# Altium integrated library Analog Devices Data Converters Digital-to-Analog Converters.IntLib: 2231 symbols (part 3 of 181)
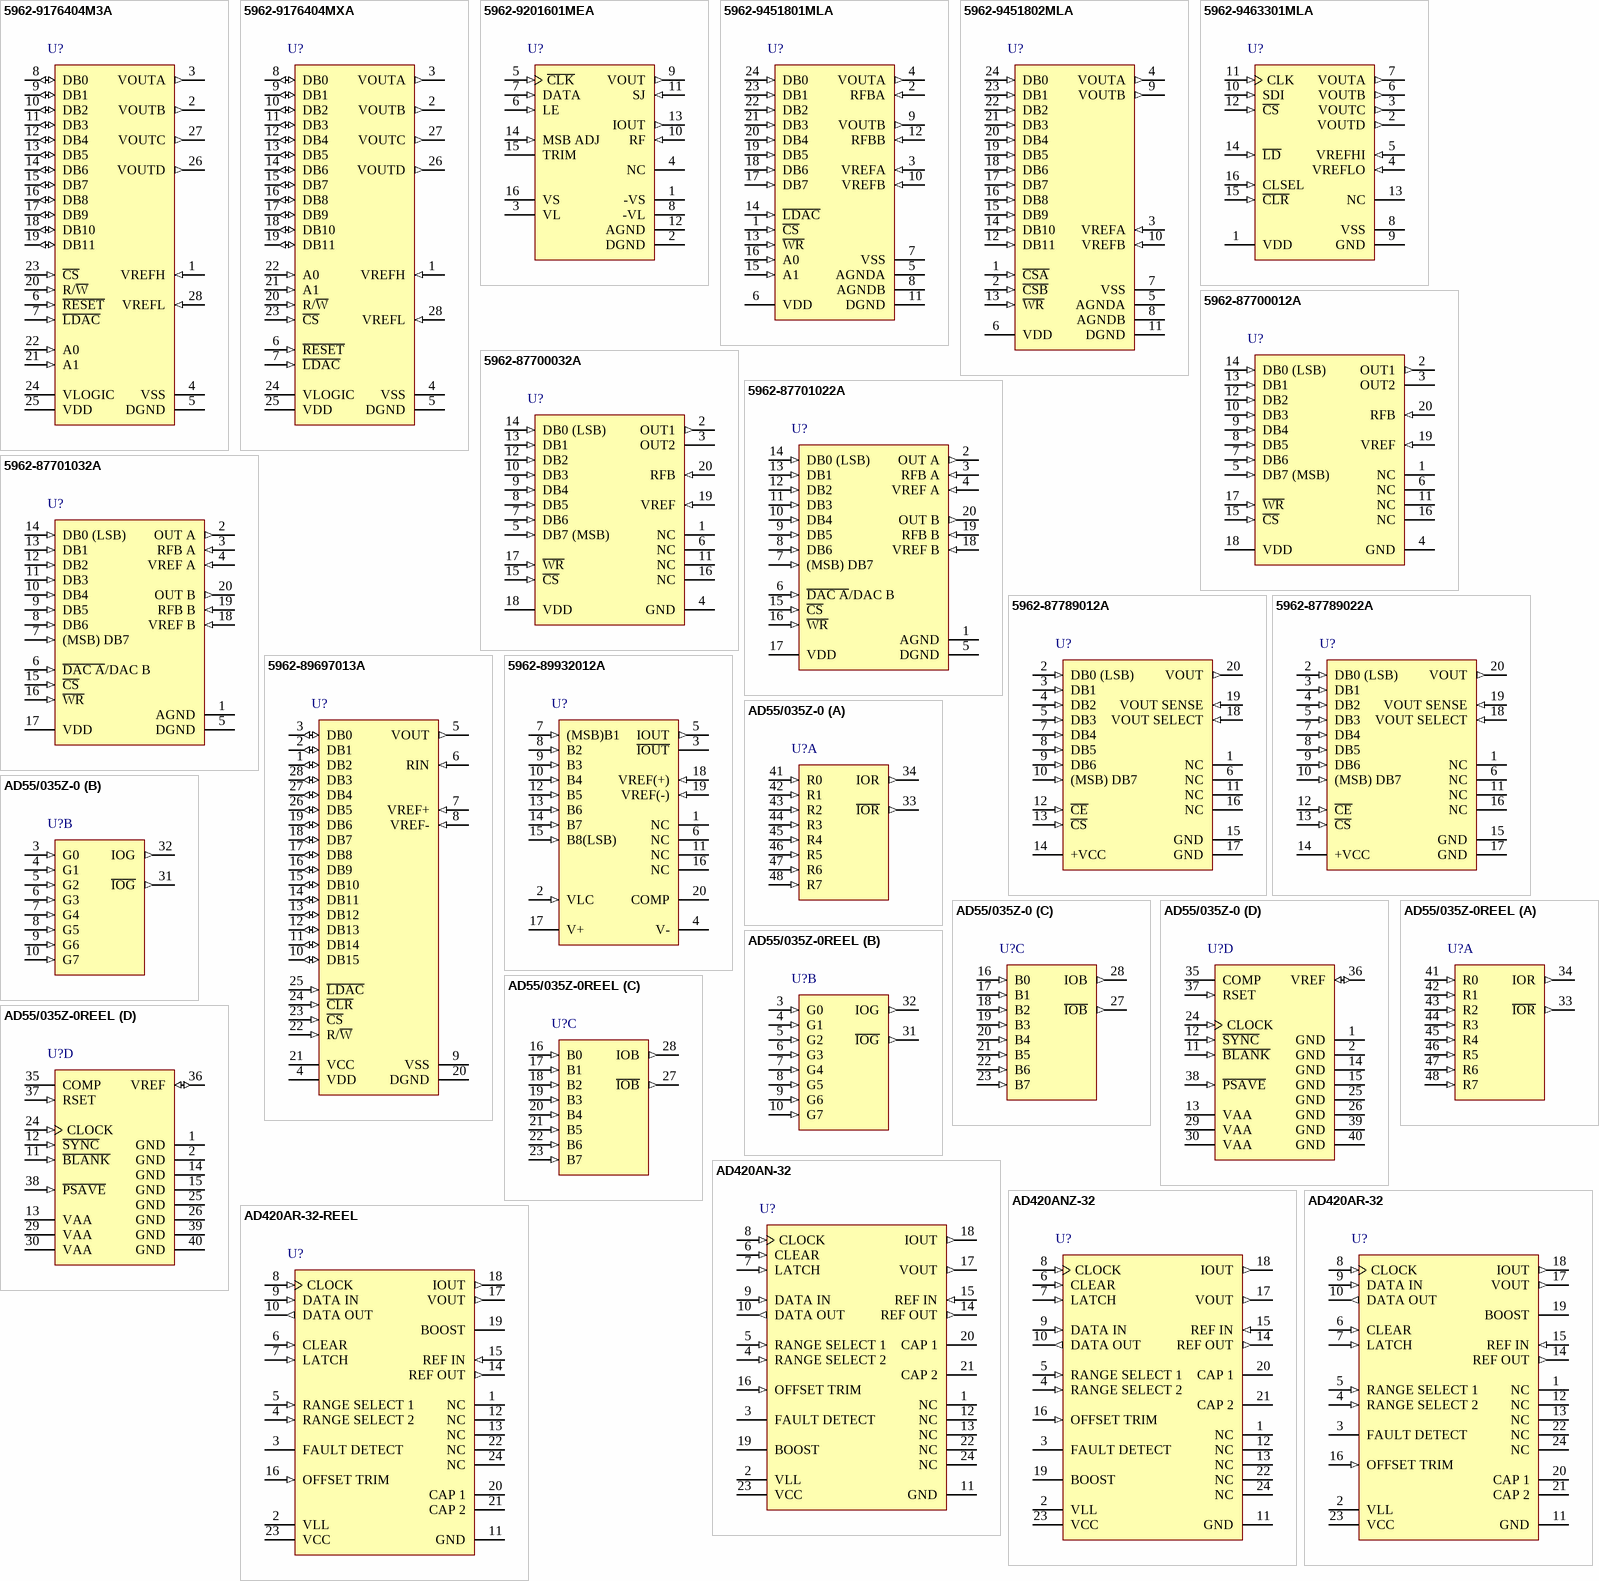
[diagram p116: symbols 5962-9176404M3A to AD420AR-32-REEL]

## AD420ANZ-32
designator U?
Single 16-Bit Digital-to-Analog Converter with Serial Interface, -40 to +85 degC, N-24-1, Pb-Free, Tube; Generic Part Number: AD420; Manufacturer: Analog Devices; PartNumber: AD420ANZ-32; # DAC Outputs: 1; Max V+: 32V; Op Pwr Diss: 176mW; Resolution (Bits): 16; Settling Time: 2.5ms; Single Supply: Yes; DatasheetVersion: Rev.H; PackageVersion: 071006-A; PackageReference: N-24-1; PackageDescription: 24-Lead Plastic Dual In-Line Package [PDIP] Narrow Body; Supplier 1: Digi-Key; Supplier Part Number 1: AD420ANZ-32-ND; Supplier 2: Farnell; Supplier Part Number 2: 9605533; Supplier 3: Newark; Supplier Part Number 3: 59K3523; Supplier 4: Mouser; Supplier Part Number 4: 584-AD420ANZ-32; Packing: Tube; RoHS: Y; Mounting Technology: Through Hole; Code_JEDEC: MS-001; ComponentLink1Description: Manufacturer URL; ComponentLink1URL: http://www.analog.com/en/index.html; ComponentLink2Description: Datasheet; ComponentLink2URL: http://www.analog.com/static/imported-files/data_sheets/AD420.pdf; ComponentLink3Description: Package Specification; ComponentLink3URL: http://www.analog.com/static/imported-files/packages/50726455539629N_24_1.pdf; ComponentLink4Description: Product URL; ComponentLink4URL: http://www.analog.com/en/digital-to-analog-converters/da-converters/ad420/products/product.html
footprint N-24-1 (DIP, 24-Leads, Row Spacing 7.62mm, Pitch 2.54mm, Body 31.9x6.6mm)
pins: 1 NC "No Connection. No internal connections inside device.", 2 VLL (power) "Auxiliary buffered +4.5 V digital logic voltage. This pin is the internal supply voltage for the digital circuitry and can be used as a termination for pull-up resistors. An external +5 V power supply can be connected to VLL.(See Datasheet)", 3 FAULT DETECT (oc) "FAULT DETECT, connected to a pull-up resistor, is asserted low when the output current does not match the DAC’s programmed value, for example, in case the current loop is broken.", 4 RANGE SELECT 2 (in) "Selects the converter’s output operating range. One output voltage range and three output current ranges are available.", 5 RANGE SELECT 1 (in) "Selects the converter’s output operating range. One output voltage range and three output current ranges are available.", 6 CLEAR (in) "Valid VIH unconditionally forces the output to go to the minimum of its programmed range. After CLEAR is removed the DAC output will remain at this value. The data in the input register is unaffected.", 7 LATCH (in) "In the 3-wire interface mode a rising edge parallel loads the serial input register data into the DAC. To use the asynchronous mode connect LATCH through a current limiting resistor to VCC.", 8 CLOCK (in) "Data Clock Input. The clock period is equal to the input data bit rate in the 3-wire interface mode and is 16 times the bit rate in asynchronous mode.", 9 DATA IN (in) "Serial Data Input.", 10 DATA OUT (out) "Serial Data Output. In the 3-wire interface mode, this output can be used for daisy-chaining multiple AD420s. In the asynchronous mode a positive pulse will indicate a framing error after the stop-bit is received.", 11 GND (power) "Ground (Common).", 12 NC "No Connection. No internal connections inside device.", 13 NC "No Connection. No internal connections inside device.", 14 REF OUT (out) "+5 V Reference Output.", 15 REF IN (in) "Reference Input.", 16 OFFSET TRIM (in) "Offset Adjust.", 17 VOUT (out) "Voltage Output.", 18 IOUT (out) "Current Output.", 19 BOOST "Connect to an external transistor to reduce the power dissipated in the AD420 output transistor, if desired.", 20 CAP 1 "These pins are used for internal filtering. Connect capacitors between each of these pins and VCC. Refer to the description of current output operation.", 21 CAP 2 "These pins are used for internal filtering. Connect capacitors between each of these pins and VCC. Refer to the description of current output operation.", 22 NC "No Connection. Do not connect anything to this pin.", 23 VCC (power) "Power Supply Input. The VCC pin should always be decoupled to GND with a 0.1 uF capacitor. See the Power Supplies and Decoupling section.", 24 NC "No Connection. No internal connections inside device."

## AD420AR-32
designator U?
Single 16-Bit Digital-to-Analog Converter with Serial Interface, -40 to +85 degC, RW-24, Tube; Generic Part Number: AD420; Manufacturer: Analog Devices; PartNumber: AD420AR-32; # DAC Outputs: 1; Max V+: 32V; Op Pwr Diss: 176mW; Resolution (Bits): 16; Settling Time: 2.5ms; Single Supply: Yes; DatasheetVersion: Rev.H; PackageVersion: 060706-A; PackageReference: RW-24; PackageDescription: 24-Lead Standard Small Outline Package [SOIC_W]; Supplier 1: Digi-Key; Supplier Part Number 1: AD420AR-32-ND; Supplier 2: Newark; Supplier Part Number 2: 92F8939; Supplier 3: Mouser; Supplier Part Number 3: 584-AD420AR-32; Packing: Tube; RoHS: N; Mounting Technology: Surface Mount; Code_JEDEC: MS-013-AD; ComponentLink1Description: Manufacturer URL; ComponentLink1URL: http://www.analog.com/en/index.html; ComponentLink2Description: Datasheet; ComponentLink2URL: http://www.analog.com/static/imported-files/data_sheets/AD420.pdf; ComponentLink3Description: Package Specification; ComponentLink3URL: http://www.analog.com/static/imported-files/packages/33665150946139RW_24.pdf; ComponentLink4Description: Product URL; ComponentLink4URL: http://www.analog.com/en/digital-to-analog-converters/da-converters/ad420/products/product.html
footprint RW-24_N (SOIC, 24-Leads, Body 15.4x7.5mm, Pitch 1.27mm, IPC Medium Density)
footprint RW-24_L (SOIC, 24-Leads, Body 15.4x7.5mm, Pitch 1.27mm, IPC High Density)
footprint RW-24_M (SOIC, 24-Leads, Body 15.4x7.5mm, Pitch 1.27mm, IPC Low Density)
pins: 1 NC "No Connection. No internal connections inside device.", 2 VLL (power) "Auxiliary buffered +4.5 V digital logic voltage. This pin is the internal supply voltage for the digital circuitry and can be used as a termination for pull-up resistors. An external +5 V power supply can be connected to VLL.(See Datasheet)", 3 FAULT DETECT (oc) "FAULT DETECT, connected to a pull-up resistor, is asserted low when the output current does not match the DAC’s programmed value, for example, in case the current loop is broken.", 4 RANGE SELECT 2 (in) "Selects the converter’s output operating range. One output voltage range and three output current ranges are available.", 5 RANGE SELECT 1 (in) "Selects the converter’s output operating range. One output voltage range and three output current ranges are available.", 6 CLEAR (in) "Valid VIH unconditionally forces the output to go to the minimum of its programmed range. After CLEAR is removed the DAC output will remain at this value. The data in the input register is unaffected.", 7 LATCH (in) "In the 3-wire interface mode a rising edge parallel loads the serial input register data into the DAC. To use the asynchronous mode connect LATCH through a current limiting resistor to VCC.", 8 CLOCK (in) "Data Clock Input. The clock period is equal to the input data bit rate in the 3-wire interface mode and is 16 times the bit rate in asynchronous mode.", 9 DATA IN (in) "Serial Data Input.", 10 DATA OUT (out) "Serial Data Output. In the 3-wire interface mode, this output can be used for daisy-chaining multiple AD420s. In the asynchronous mode a positive pulse will indicate a framing error after the stop-bit is received.", 11 GND (power) "Ground (Common).", 12 NC "No Connection. No internal connections inside device.", 13 NC "No Connection. No internal connections inside device.", 14 REF OUT (out) "+5 V Reference Output.", 15 REF IN (in) "Reference Input.", 16 OFFSET TRIM (in) "Offset Adjust.", 17 VOUT (out) "Voltage Output.", 18 IOUT (out) "Current Output.", 19 BOOST "Connect to an external transistor to reduce the power dissipated in the AD420 output transistor, if desired.", 20 CAP 1 "These pins are used for internal filtering. Connect capacitors between each of these", 21 CAP 2 "pins and VCC. Refer to the description of current output operation.", 22 NC "No Connection. Do not connect anything to this pin.", 23 VCC (power) "Power Supply Input. The VCC pin should always be decoupled to GND with a 0.1 uF capacitor. See the Power Supplies and Decoupling section.", 24 NC "No Connection. No internal connections inside device."

## AD420AR-32-REEL
designator U?
Single 16-Bit Digital-to-Analog Converter with Serial Interface, -40 to +85 degC, RW-24, Reel; Generic Part Number: AD420; Manufacturer: Analog Devices; PartNumber: AD420AR-32-REEL; # DAC Outputs: 1; Max V+: 32V; Op Pwr Diss: 176mW; Resolution (Bits): 16; Settling Time: 2.5ms; Single Supply: Yes; DatasheetVersion: Rev.H; PackageVersion: 060706-A; PackageReference: RW-24; PackageDescription: 24-Lead Standard Small Outline Package [SOIC_W]; Supplier 1: Digi-Key; Supplier Part Number 1: AD420AR-32-REEL-ND; Supplier 2: Newark; Supplier Part Number 2: 09B5129; Supplier 3: Mouser; Supplier Part Number 3: 584-AD420AR-32-R; Packing: Reel; RoHS: N; Mounting Technology: Surface Mount; Code_JEDEC: MS-013-AD; ComponentLink1Description: Manufacturer URL; ComponentLink1URL: http://www.analog.com/en/index.html; ComponentLink2Description: Datasheet; ComponentLink2URL: http://www.analog.com/static/imported-files/data_sheets/AD420.pdf; ComponentLink3Description: Package Specification; ComponentLink3URL: http://www.analog.com/static/imported-files/packages/33665150946139RW_24.pdf; ComponentLink4Description: Product URL; ComponentLink4URL: http://www.analog.com/en/digital-to-analog-converters/da-converters/ad420/products/product.html
footprint RW-24_N (SOIC, 24-Leads, Body 15.4x7.5mm, Pitch 1.27mm, IPC Medium Density)
footprint RW-24_L (SOIC, 24-Leads, Body 15.4x7.5mm, Pitch 1.27mm, IPC High Density)
footprint RW-24_M (SOIC, 24-Leads, Body 15.4x7.5mm, Pitch 1.27mm, IPC Low Density)
pins: 1 NC "No Connection. No internal connections inside device.", 2 VLL (power) "Auxiliary buffered +4.5 V digital logic voltage. This pin is the internal supply voltage for the digital circuitry and can be used as a termination for pull-up resistors. An external +5 V power supply can be connected to VLL.(See Datasheet)", 3 FAULT DETECT (oc) "FAULT DETECT, connected to a pull-up resistor, is asserted low when the output current does not match the DAC’s programmed value, for example, in case the current loop is broken.", 4 RANGE SELECT 2 (in) "Selects the converter’s output operating range. One output voltage range and three output current ranges are available.", 5 RANGE SELECT 1 (in) "Selects the converter’s output operating range. One output voltage range and three output current ranges are available.", 6 CLEAR (in) "Valid VIH unconditionally forces the output to go to the minimum of its programmed range. After CLEAR is removed the DAC output will remain at this value. The data in the input register is unaffected.", 7 LATCH (in) "In the 3-wire interface mode a rising edge parallel loads the serial input register data into the DAC. To use the asynchronous mode connect LATCH through a current limiting resistor to VCC.", 8 CLOCK (in) "Data Clock Input. The clock period is equal to the input data bit rate in the 3-wire interface mode and is 16 times the bit rate in asynchronous mode.", 9 DATA IN (in) "Serial Data Input.", 10 DATA OUT (out) "Serial Data Output. In the 3-wire interface mode, this output can be used for daisy-chaining multiple AD420s. In the asynchronous mode a positive pulse will indicate a framing error after the stop-bit is received.", 11 GND (power) "Ground (Common).", 12 NC "No Connection. No internal connections inside device.", 13 NC "No Connection. No internal connections inside device.", 14 REF OUT (out) "+5 V Reference Output.", 15 REF IN (in) "Reference Input.", 16 OFFSET TRIM (in) "Offset Adjust.", 17 VOUT (out) "Voltage Output.", 18 IOUT (out) "Current Output.", 19 BOOST "Connect to an external transistor to reduce the power dissipated in the AD420 output transistor, if desired.", 20 CAP 1 "These pins are used for internal filtering. Connect capacitors between each of these", 21 CAP 2 "pins and VCC. Refer to the description of current output operation.", 22 NC "No Connection. Do not connect anything to this pin.", 23 VCC (power) "Power Supply Input. The VCC pin should always be decoupled to GND with a 0.1 uF capacitor. See the Power Supplies and Decoupling section.", 24 NC "No Connection. No internal connections inside device."

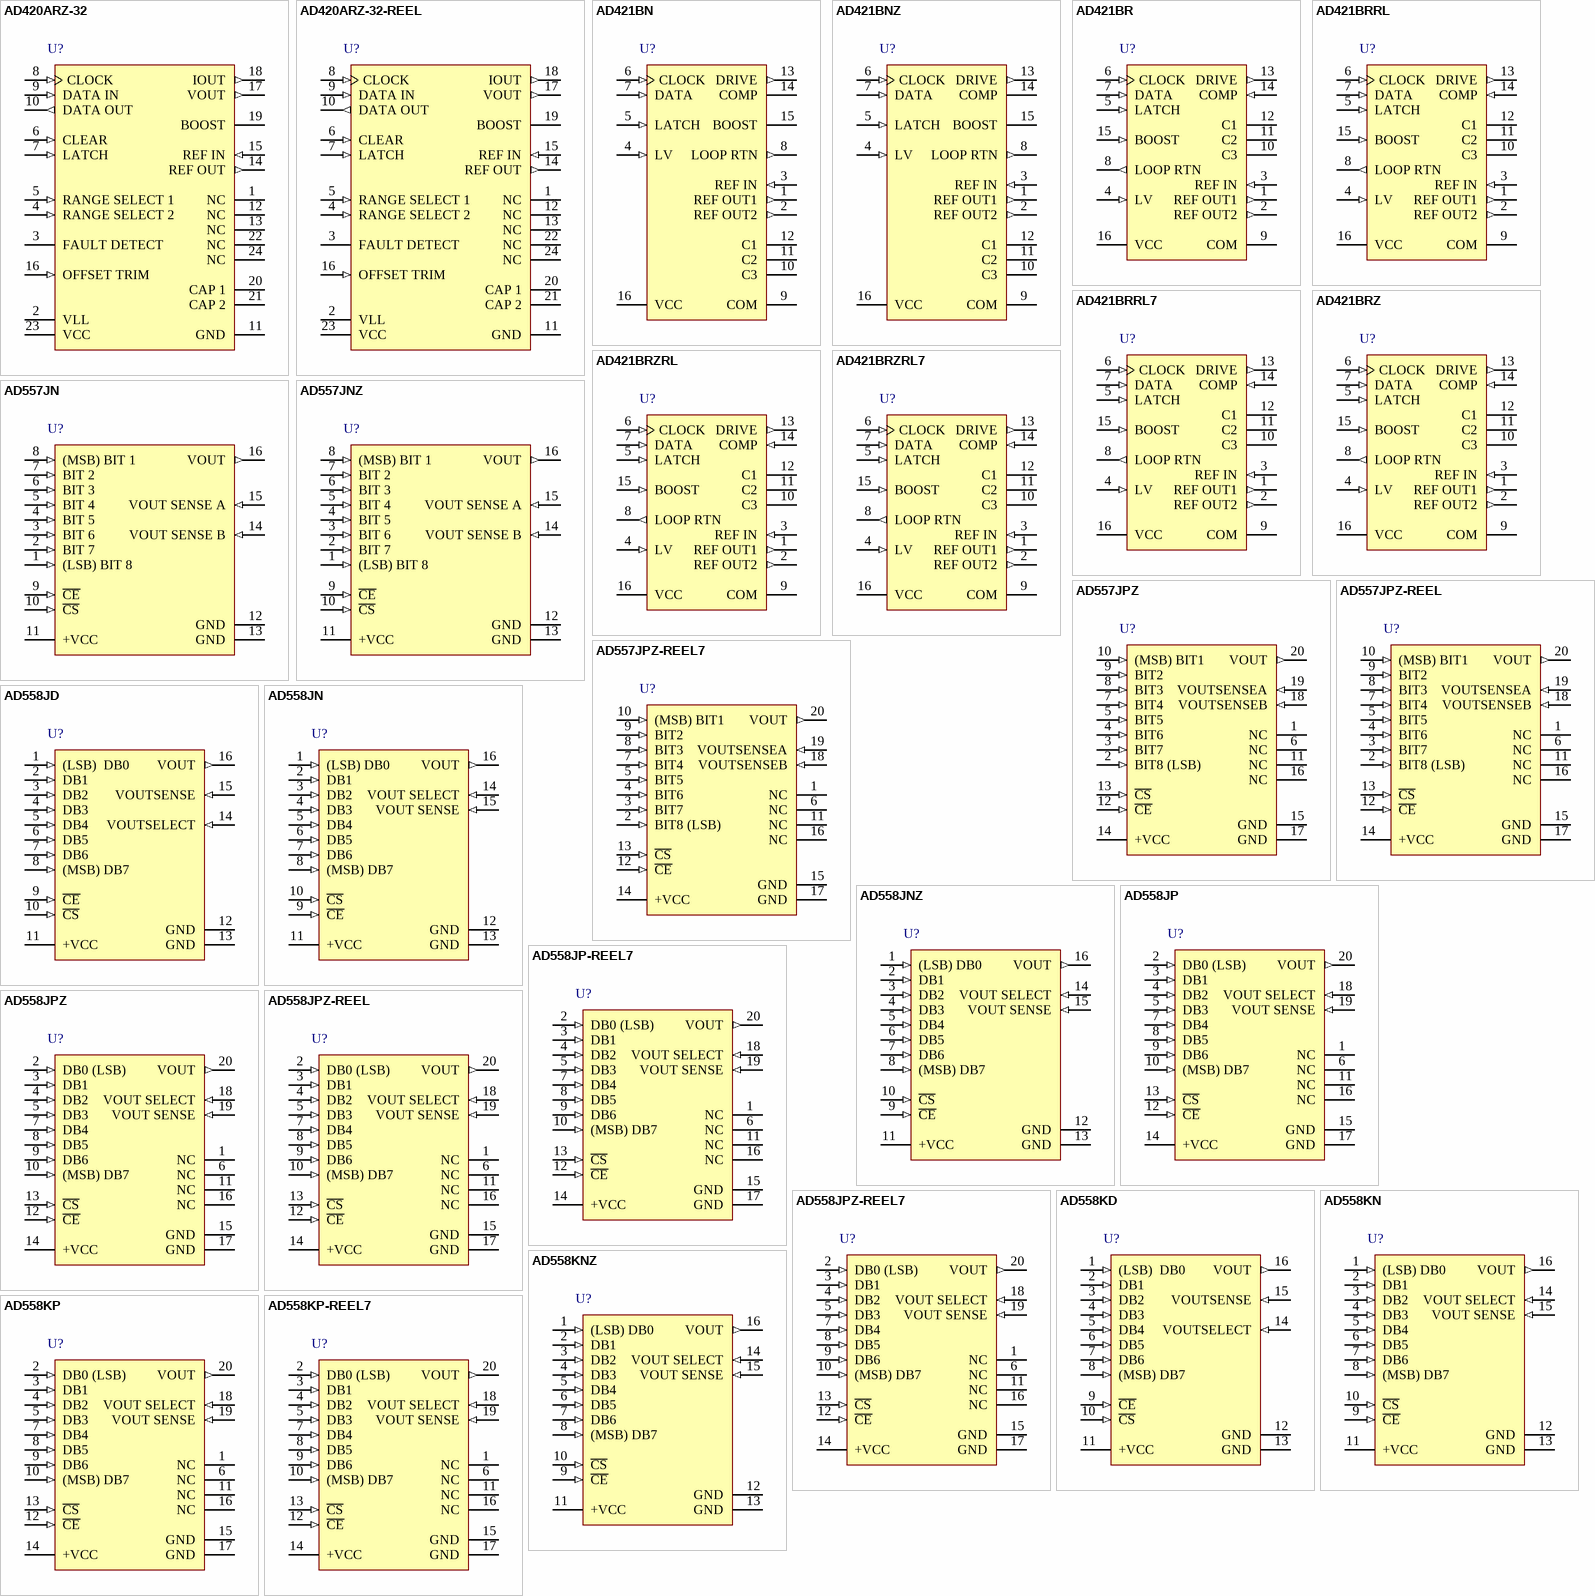
[diagram p2: symbols AD420ARZ-32 to AD558KP-REEL7]

## AD420ARZ-32
designator U?
Single 16-Bit Digital-to-Analog Converter with Serial Interface, -40 to +85 degC, RW-24, Pb-Free, Tube; Generic Part Number: AD420; Manufacturer: Analog Devices; PartNumber: AD420ARZ-32; # DAC Outputs: 1; Max V+: 32V; Op Pwr Diss: 176mW; Resolution (Bits): 16; Settling Time: 2.5ms; Single Supply: Yes; DatasheetVersion: Rev.H; PackageVersion: 060706-A; PackageReference: RW-24; PackageDescription: 24-Lead Standard Small Outline Package [SOIC_W]; Supplier 1: Digi-Key; Supplier Part Number 1: AD420ARZ-32-ND; Supplier 2: Farnell; Supplier Part Number 2: 1079391; Supplier 3: Newark; Supplier Part Number 3: 19M0785; Supplier 4: Mouser; Supplier Part Number 4: 584-AD420ARZ-32; Packing: Tube; RoHS: Y; Mounting Technology: Surface Mount; Code_JEDEC: MS-013-AD; ComponentLink1Description: Manufacturer URL; ComponentLink1URL: http://www.analog.com/en/index.html; ComponentLink2Description: Datasheet; ComponentLink2URL: http://www.analog.com/static/imported-files/data_sheets/AD420.pdf; ComponentLink3Description: Package Specification; ComponentLink3URL: http://www.analog.com/static/imported-files/packages/33665150946139RW_24.pdf; ComponentLink4Description: Product URL; ComponentLink4URL: http://www.analog.com/en/digital-to-analog-converters/da-converters/ad420/products/product.html
footprint RW-24_N (SOIC, 24-Leads, Body 15.4x7.5mm, Pitch 1.27mm, IPC Medium Density)
footprint RW-24_L (SOIC, 24-Leads, Body 15.4x7.5mm, Pitch 1.27mm, IPC High Density)
footprint RW-24_M (SOIC, 24-Leads, Body 15.4x7.5mm, Pitch 1.27mm, IPC Low Density)
pins: 1 NC "No Connection. No internal connections inside device.", 2 VLL (power) "Auxiliary buffered +4.5 V digital logic voltage. This pin is the internal supply voltage for the digital circuitry and can be used as a termination for pull-up resistors. An external +5 V power supply can be connected to VLL.(See Datasheet)", 3 FAULT DETECT (oc) "FAULT DETECT, connected to a pull-up resistor, is asserted low when the output current does not match the DAC’s programmed value, for example, in case the current loop is broken.", 4 RANGE SELECT 2 (in) "Selects the converter’s output operating range. One output voltage range and three output current ranges are available.", 5 RANGE SELECT 1 (in) "Selects the converter’s output operating range. One output voltage range and three output current ranges are available.", 6 CLEAR (in) "Valid VIH unconditionally forces the output to go to the minimum of its programmed range. After CLEAR is removed the DAC output will remain at this value. The data in the input register is unaffected.", 7 LATCH (in) "In the 3-wire interface mode a rising edge parallel loads the serial input register data into the DAC. To use the asynchronous mode connect LATCH through a current limiting resistor to VCC.", 8 CLOCK (in) "Data Clock Input. The clock period is equal to the input data bit rate in the 3-wire interface mode and is 16 times the bit rate in asynchronous mode.", 9 DATA IN (in) "Serial Data Input.", 10 DATA OUT (out) "Serial Data Output. In the 3-wire interface mode, this output can be used for daisy-chaining multiple AD420s. In the asynchronous mode a positive pulse will indicate a framing error after the stop-bit is received.", 11 GND (power) "Ground (Common).", 12 NC "No Connection. No internal connections inside device.", 13 NC "No Connection. No internal connections inside device.", 14 REF OUT (out) "+5 V Reference Output.", 15 REF IN (in) "Reference Input.", 16 OFFSET TRIM (in) "Offset Adjust.", 17 VOUT (out) "Voltage Output.", 18 IOUT (out) "Current Output.", 19 BOOST "Connect to an external transistor to reduce the power dissipated in the AD420 output transistor, if desired.", 20 CAP 1 "These pins are used for internal filtering. Connect capacitors between each of these", 21 CAP 2 "pins and VCC. Refer to the description of current output operation.", 22 NC "No Connection. Do not connect anything to this pin.", 23 VCC (power) "Power Supply Input. The VCC pin should always be decoupled to GND with a 0.1 uF capacitor. See the Power Supplies and Decoupling section.", 24 NC "No Connection. No internal connections inside device."

## AD420ARZ-32-REEL
designator U?
Single 16-Bit Digital-to-Analog Converter with Serial Interface, -40 to +85 degC, RW-24, Pb-Free, Reel; Generic Part Number: AD420; Manufacturer: Analog Devices; PartNumber: AD420ARZ-32-REEL; # DAC Outputs: 1; Max V+: 32V; Op Pwr Diss: 176mW; Resolution (Bits): 16; Settling Time: 2.5ms; Single Supply: Yes; DatasheetVersion: Rev.H; PackageVersion: 060706-A; PackageReference: RW-24; PackageDescription: 24-Lead Standard Small Outline Package [SOIC_W]; Supplier 1: Digi-Key; Supplier Part Number 1: AD420ARZ-32-REELTR-ND; Supplier 2: Digi-Key; Supplier Part Number 2: AD420ARZ-32-REELCT-ND; Supplier 3: Digi-Key; Supplier Part Number 3: AD420ARZ-32-REELDKR-ND; Supplier 4: Newark; Supplier Part Number 4: 59K3525; Supplier 5: Mouser; Supplier Part Number 5: 584-AD420ARZ-32-R; Packing: Reel; RoHS: Y; Mounting Technology: Surface Mount; Code_JEDEC: MS-013-AD; ComponentLink1Description: Manufacturer URL; ComponentLink1URL: http://www.analog.com/en/index.html; ComponentLink2Description: Datasheet; ComponentLink2URL: http://www.analog.com/static/imported-files/data_sheets/AD420.pdf; ComponentLink3Description: Package Specification; ComponentLink3URL: http://www.analog.com/static/imported-files/packages/33665150946139RW_24.pdf; ComponentLink4Description: Product URL; ComponentLink4URL: http://www.analog.com/en/digital-to-analog-converters/da-converters/ad420/products/product.html
footprint RW-24_N (SOIC, 24-Leads, Body 15.4x7.5mm, Pitch 1.27mm, IPC Medium Density)
footprint RW-24_L (SOIC, 24-Leads, Body 15.4x7.5mm, Pitch 1.27mm, IPC High Density)
footprint RW-24_M (SOIC, 24-Leads, Body 15.4x7.5mm, Pitch 1.27mm, IPC Low Density)
pins: 1 NC "No Connection. No internal connections inside device.", 2 VLL (power) "Auxiliary buffered +4.5 V digital logic voltage. This pin is the internal supply voltage for the digital circuitry and can be used as a termination for pull-up resistors. An external +5 V power supply can be connected to VLL.(See Datasheet)", 3 FAULT DETECT (oc) "FAULT DETECT, connected to a pull-up resistor, is asserted low when the output current does not match the DAC’s programmed value, for example, in case the current loop is broken.", 4 RANGE SELECT 2 (in) "Selects the converter’s output operating range. One output voltage range and three output current ranges are available.", 5 RANGE SELECT 1 (in) "Selects the converter’s output operating range. One output voltage range and three output current ranges are available.", 6 CLEAR (in) "Valid VIH unconditionally forces the output to go to the minimum of its programmed range. After CLEAR is removed the DAC output will remain at this value. The data in the input register is unaffected.", 7 LATCH (in) "In the 3-wire interface mode a rising edge parallel loads the serial input register data into the DAC. To use the asynchronous mode connect LATCH through a current limiting resistor to VCC.", 8 CLOCK (in) "Data Clock Input. The clock period is equal to the input data bit rate in the 3-wire interface mode and is 16 times the bit rate in asynchronous mode.", 9 DATA IN (in) "Serial Data Input.", 10 DATA OUT (out) "Serial Data Output. In the 3-wire interface mode, this output can be used for daisy-chaining multiple AD420s. In the asynchronous mode a positive pulse will indicate a framing error after the stop-bit is received.", 11 GND (power) "Ground (Common).", 12 NC "No Connection. No internal connections inside device.", 13 NC "No Connection. No internal connections inside device.", 14 REF OUT (out) "+5 V Reference Output.", 15 REF IN (in) "Reference Input.", 16 OFFSET TRIM (in) "Offset Adjust.", 17 VOUT (out) "Voltage Output.", 18 IOUT (out) "Current Output.", 19 BOOST "Connect to an external transistor to reduce the power dissipated in the AD420 output transistor, if desired.", 20 CAP 1 "These pins are used for internal filtering. Connect capacitors between each of these", 21 CAP 2 "pins and VCC. Refer to the description of current output operation.", 22 NC "No Connection. Do not connect anything to this pin.", 23 VCC (power) "Power Supply Input. The VCC pin should always be decoupled to GND with a 0.1 uF capacitor. See the Power Supplies and Decoupling section.", 24 NC "No Connection. No internal connections inside device."

## AD421BN
designator U?
Single 16-Bit Loop-Powered Digital-to-Analog Converter, 4 to 20 mA, -40 to +85 degC, N-16, Tube; Generic Part Number: AD421; Manufacturer: Analog Devices; PartNumber: AD421BN; # DAC Outputs: 1; Max V+: 5.05V; Op Pwr Diss: 1.95mW; Resolution (Bits): 16; Settling Time: 8ms; Single Supply: Yes; DatasheetVersion: Rev.C; PackageVersion: 070706-A; PackageReference: N-16; PackageDescription: 16-Lead Plastic Dual In-Line Package [PDIP] Narrow Body; Supplier 1: Digi-Key; Supplier Part Number 1: AD421BN-ND; Supplier 2: Mouser; Supplier Part Number 2: 584-AD421BN; Packing: Tube; RoHS: N; Mounting Technology: Through Hole; Code_JEDEC: MS-001; ComponentLink1Description: Manufacturer URL; ComponentLink1URL: http://www.analog.com/en/index.html; ComponentLink2Description: Datasheet; ComponentLink2URL: http://www.analog.com/static/imported-files/data_sheets/AD421.pdf; ComponentLink3Description: Package Specification; ComponentLink3URL: http://www.analog.com/static/imported-files/packages/44768431550332N_16.pdf; ComponentLink4Description: Product URL; ComponentLink4URL: http://www.analog.com/en/digital-to-analog-converters/da-converters/ad421/products/product.html
footprint N-16 (DIP, 16-Leads, Row Spacing 7.62mm, Pitch 2.54mm, Body 20.1x6.6mm)
pins: 1 REF OUT1 (out) "Reference Output 1. A precision +1.25 V reference is provided at this pin. It is intended as a precision reference source for other devices in the transmitter. REF OUT1 is a buffered output capable of providing up to 0.5 mA (See Datasheet)", 2 REF OUT2 (out) "Reference Output 2. A precision +2.5 V reference is provided at this pin. To operate the AD421 with its own reference, REF OUT2 should be connected to REF IN. It can also be used as a precision reference source for other (See Datasheet)", 3 REF IN (in) "Voltage Reference Input. The reference voltage for the AD421 is applied to this pin and it sets the span for the AD421. The nominal reference voltage for the AD421 is +2.5 V for correct operation. This can be supplied using (See Datasheet)", 4 LV (in) "Regulated Voltage Control Input. The LV input controls the loop gain of the servo amplifier to set VCC. With LV connected to COM, the regulator voltage is set to 5 V nominal. If the LV input is connected through 0.01 uF to (See Datasheet)", 5 LATCH (in) "DAC Latch Input. Logic Input. A rising edge of the LATCH signal loads the data from the serial input shift register to the DAC latch and hence updates the output of the DAC. The number of clock cycles provided between latch (See Datasheet)", 6 CLOCK (in) "Data Clock Input. Data on the DATA input is clocked into the shift register on the rising edge of this CLOCK input. The period of this clock equals the input serial data bit rate. This serial clock rate can be up to 10 MHz. (See Datasheet)", 7 DATA (in) "Data Input. The data to be loaded to the AD421 input shift register is applied to this input. Data should be valid on the rising edge of the CLOCK input.", 8 LOOP RTN (out) "Loop Return Output. LOOP RTN is the return path for current flowing in the current loop", 9 COM (power) "Common. This is the reference potential for the AD421 analog and digital inputs and outputs and for the voltage regulator output", 10 C3 "Filtering Capacitor. A low dielectric absorption capacitor ceramic capacitor should be connected between this pin and COM for internal filtering of the switched current sources", 11 C2 "Filtering Capacitor. See C3 description.", 12 C1 "Filtering Capacitor. See C3 description.", 13 DRIVE (out) "Output from the Voltage Regulator Loop. The DRIVE signal controls the external pass transistor to establish and maintain the correct VCC level programmed by the LV inputs while providing the necessary bias as the loop (See Datasheet)", 14 COMP "Compensation Capacitor Input. A capacitor connected between COMP and DRIVE is required to stabilize the feedback loop formed with the regulator op amp and the external pass transistor.", 15 BOOST "This open collector pin sinks the necessary current from the loop so that the current flowing into BOOST plus the current flowing into COM is equal to the programmed loop current.", 16 VCC (power) "Power Supply. VCC is the power supply input of the AD421 and it also provides the voltage regulator output, driven by the external pass transistor. It is used both to bias the AD421 itself and to provide power for the rest (See Datasheet)"

## AD421BNZ
designator U?
Single 16-Bit Loop-Powered Digital-to-Analog Converter, 4 to 20 mA, -40 to +85 degC, N-16, Pb-Free, Tube; Generic Part Number: AD421; Manufacturer: Analog Devices; PartNumber: AD421BNZ; # DAC Outputs: 1; Max V+: 5.05V; Op Pwr Diss: 1.95mW; Resolution (Bits): 16; Settling Time: 8ms; Single Supply: Yes; DatasheetVersion: Rev.C; PackageVersion: 070706-A; PackageReference: N-16; PackageDescription: 16-Lead Plastic Dual In-Line Package [PDIP] Narrow Body; Supplier 1: Digi-Key; Supplier Part Number 1: AD421BNZ-ND; Supplier 2: Farnell; Supplier Part Number 2: 1438368; Supplier 3: Newark; Supplier Part Number 3: 59K3526; Supplier 4: Mouser; Supplier Part Number 4: 584-AD421BNZ; Packing: Tube; RoHS: Y; Mounting Technology: Through Hole; Code_JEDEC: MS-001; ComponentLink1Description: Manufacturer URL; ComponentLink1URL: http://www.analog.com/en/index.html; ComponentLink2Description: Datasheet; ComponentLink2URL: http://www.analog.com/static/imported-files/data_sheets/AD421.pdf; ComponentLink3Description: Package Specification; ComponentLink3URL: http://www.analog.com/static/imported-files/packages/44768431550332N_16.pdf; ComponentLink4Description: Product URL; ComponentLink4URL: http://www.analog.com/en/digital-to-analog-converters/da-converters/ad421/products/product.html
footprint N-16 (DIP, 16-Leads, Row Spacing 7.62mm, Pitch 2.54mm, Body 20.1x6.6mm)
pins: 1 REF OUT1 (out) "Reference Output 1. A precision +1.25 V reference is provided at this pin. It is intended as a precision reference source for other devices in the transmitter. REF OUT1 is a buffered output capable of providing up to 0.5 mA (See Datasheet)", 2 REF OUT2 (out) "Reference Output 2. A precision +2.5 V reference is provided at this pin. To operate the AD421 with its own reference, REF OUT2 should be connected to REF IN. It can also be used as a precision reference source for other (See Datasheet)", 3 REF IN (in) "Voltage Reference Input. The reference voltage for the AD421 is applied to this pin and it sets the span for the AD421. The nominal reference voltage for the AD421 is +2.5 V for correct operation. This can be supplied using (See Datasheet)", 4 LV (in) "Regulated Voltage Control Input. The LV input controls the loop gain of the servo amplifier to set VCC. With LV connected to COM, the regulator voltage is set to 5 V nominal. If the LV input is connected through 0.01 uF to (See Datasheet)", 5 LATCH (in) "DAC Latch Input. Logic Input. A rising edge of the LATCH signal loads the data from the serial input shift register to the DAC latch and hence updates the output of the DAC. The number of clock cycles provided between latch (See Datasheet)", 6 CLOCK (in) "Data Clock Input. Data on the DATA input is clocked into the shift register on the rising edge of this CLOCK input. The period of this clock equals the input serial data bit rate. This serial clock rate can be up to 10 MHz. (See Datasheet)", 7 DATA (in) "Data Input. The data to be loaded to the AD421 input shift register is applied to this input. Data should be valid on the rising edge of the CLOCK input.", 8 LOOP RTN (out) "Loop Return Output. LOOP RTN is the return path for current flowing in the current loop", 9 COM (power) "Common. This is the reference potential for the AD421 analog and digital inputs and outputs and for the voltage regulator output", 10 C3 "Filtering Capacitor. A low dielectric absorption capacitor ceramic capacitor should be connected between this pin and COM for internal filtering of the switched current sources", 11 C2 "Filtering Capacitor. See C3 description.", 12 C1 "Filtering Capacitor. See C3 description.", 13 DRIVE (out) "Output from the Voltage Regulator Loop. The DRIVE signal controls the external pass transistor to establish and maintain the correct VCC level programmed by the LV inputs while providing the necessary bias as the loop (See Datasheet)", 14 COMP "Compensation Capacitor Input. A capacitor connected between COMP and DRIVE is required to stabilize the feedback loop formed with the regulator op amp and the external pass transistor.", 15 BOOST "This open collector pin sinks the necessary current from the loop so that the current flowing into BOOST plus the current flowing into COM is equal to the programmed loop current.", 16 VCC (power) "Power Supply. VCC is the power supply input of the AD421 and it also provides the voltage regulator output, driven by the external pass transistor. It is used both to bias the AD421 itself and to provide power for the rest (See Datasheet)"

## AD421BR
designator U?
Single 16-Bit Loop-Powered Digital-to-Analog Converter, 4 to 20 mA, -40 to +85 degC, RW-16, Tube; Generic Part Number: AD421; Manufacturer: Analog Devices; PartNumber: AD421BR; # DAC Outputs: 1; Max V+: 5.05V; Op Pwr Diss: 1.95mW; Resolution (Bits): 16; Settling Time: 8ms; Single Supply: Yes; DatasheetVersion: Rev.C; PackageVersion: 032707-B; PackageReference: RW-16; PackageDescription: 16-Lead Standard Small Outline Package [SOIC_W]; Supplier 1: Digi-Key; Supplier Part Number 1: AD421BR-ND; Supplier 2: Mouser; Supplier Part Number 2: 584-AD421BR; Packing: Tube; RoHS: N; Mounting Technology: Surface Mount; Code_JEDEC: MS-013-AA; Code_IPC: SOIC127P1030-16; ComponentLink1Description: Manufacturer URL; ComponentLink1URL: http://www.analog.com/en/index.html; ComponentLink2Description: Datasheet; ComponentLink2URL: http://www.analog.com/static/imported-files/data_sheets/AD421.pdf; ComponentLink3Description: Package Specification; ComponentLink3URL: http://www.analog.com/static/imported-files/packages/PKG_PDF/SOIC_WIDE%20%28RW%29/RW_16.pdf; ComponentLink4Description: Product URL; ComponentLink4URL: http://www.analog.com/en/digital-to-analog-converters/da-converters/ad421/products/product.html
footprint RW-16_N (SOIC, 16-Leads, Body 10.3x7.5mm, Pitch 1.27mm, IPC Medium Density)
footprint RW-16_L (SOIC, 16-Leads, Body 10.3x7.5mm, Pitch 1.27mm, IPC High Density)
footprint RW-16_M (SOIC, 16-Leads, Body 10.3x7.5mm, Pitch 1.27mm, IPC Low Density)
pins: 1 REF OUT1 (out) "Reference Output 1. A precision +1.25 V reference is provided at this pin. It is intended as a precision reference source for other devices in the transmitter. REF OUT1 is a buffered output capable of providing up to 0.5 mA (See Datasheet)", 2 REF OUT2 (out) "Reference Output 2. A precision +2.5 V reference is provided at this pin. To operate the AD421 with its own reference, REF OUT2 should be connected to REF IN. It can also be used as a precision reference source for other (See Datasheet)", 3 REF IN (in) "Voltage Reference Input. The reference voltage for the AD421 is applied to this pin and it sets the span for the AD421. The nominal reference voltage for the AD421 is +2.5 V for correct operation. This can be supplied using (See Datasheet)", 4 LV (in) "Regulated Voltage Control Input. The LV input controls the loop gain of the servo amplifier to set VCC. With LV connected to COM, the regulator voltage is set to 5 V nominal. If the LV input is connected through 0.01 uF to (See Datasheet)", 5 LATCH (in) "DAC Latch Input. Logic Input. A rising edge of the LATCH signal loads the data from the serial input shift register to the DAC latch and hence updates the output of the DAC. The number of clock cycles provided between latch (See Datasheet)", 6 CLOCK (in) "Data Clock Input. Data on the DATA input is clocked into the shift register on the rising edge of this CLOCK input. The period of this clock equals the input serial data bit rate. This serial clock rate can be up to 10 MHz. (See Datasheet)", 7 DATA (in) "Data Input. The data to be loaded to the AD421 input shift register is applied to this input. Data should be valid on the rising edge of the CLOCK input.", 8 LOOP RTN (out) "Loop Return Output. LOOP RTN is the return path for current flowing in the current loop.", 9 COM (power) "Common. This is the reference potential for the AD421 analog and digital inputs and outputs and for the voltage regulator output.", 10 C3 "Filtering Capacitor. A low dielectric absorption capacitor ceramic capacitor should be connected between this pin and COM for internal filtering of the switched current sources", 11 C2 "Filtering Capacitor. See C3 description.", 12 C1 "Filtering Capacitor. See C3 description.", 13 DRIVE (out) "Output from the Voltage Regulator Loop. The DRIVE signal controls the external pass transistor to establish and maintain the correct VCC level programmed by the LV inputs while providing the necessary bias as the loop (See Datasheet)", 14 COMP (in) "Compensation Capacitor Input. A capacitor connected between COMP and DRIVE is required to stabilize the feedback loop formed with the regulator op amp and the external pass transistor.", 15 BOOST (in) "This open collector pin sinks the necessary current from the loop so that the current flowing into BOOST plus the current flowing into COM is equal to the programmed loop current", 16 VCC (power) "Power Supply. VCC is the power supply input of the AD421 and it also provides the voltage regulator output, driven by the external pass transistor. It is used both to bias the AD421 itself and to provide power for the rest (See Datasheet)"

## AD421BRRL
designator U?
Single 16-Bit Loop-Powered Digital-to-Analog Converter, 4 to 20 mA, -40 to +85 degC, RW-16, Reel; Generic Part Number: AD421; Manufacturer: Analog Devices; PartNumber: AD421BRRL; # DAC Outputs: 1; Max V+: 5.05V; Op Pwr Diss: 1.95mW; Resolution (Bits): 16; Settling Time: 8ms; Single Supply: Yes; DatasheetVersion: Rev.C; PackageVersion: 032707-B; PackageReference: RW-16; PackageDescription: 16-Lead Standard Small Outline Package [SOIC_W]; Supplier 1: Digi-Key; Supplier Part Number 1: AD421BRRL-ND; Supplier 2: Newark; Supplier Part Number 2: 09B5130; Packing: Reel; RoHS: N; Mounting Technology: Surface Mount; Code_JEDEC: MS-013-AA; Code_IPC: SOIC127P1030-16; ComponentLink1Description: Manufacturer URL; ComponentLink1URL: http://www.analog.com/en/index.html; ComponentLink2Description: Datasheet; ComponentLink2URL: http://www.analog.com/static/imported-files/data_sheets/AD421.pdf; ComponentLink3Description: Package Specification; ComponentLink3URL: http://www.analog.com/static/imported-files/packages/PKG_PDF/SOIC_WIDE%20%28RW%29/RW_16.pdf; ComponentLink4Description: Product URL; ComponentLink4URL: http://www.analog.com/en/digital-to-analog-converters/da-converters/ad421/products/product.html
footprint RW-16_N (SOIC, 16-Leads, Body 10.3x7.5mm, Pitch 1.27mm, IPC Medium Density)
footprint RW-16_L (SOIC, 16-Leads, Body 10.3x7.5mm, Pitch 1.27mm, IPC High Density)
footprint RW-16_M (SOIC, 16-Leads, Body 10.3x7.5mm, Pitch 1.27mm, IPC Low Density)
pins: 1 REF OUT1 (out) "Reference Output 1. A precision +1.25 V reference is provided at this pin. It is intended as a precision reference source for other devices in the transmitter. REF OUT1 is a buffered output capable of providing up to 0.5 mA (See Datasheet)", 2 REF OUT2 (out) "Reference Output 2. A precision +2.5 V reference is provided at this pin. To operate the AD421 with its own reference, REF OUT2 should be connected to REF IN. It can also be used as a precision reference source for other (See Datasheet)", 3 REF IN (in) "Voltage Reference Input. The reference voltage for the AD421 is applied to this pin and it sets the span for the AD421. The nominal reference voltage for the AD421 is +2.5 V for correct operation. This can be supplied using (See Datasheet)", 4 LV (in) "Regulated Voltage Control Input. The LV input controls the loop gain of the servo amplifier to set VCC. With LV connected to COM, the regulator voltage is set to 5 V nominal. If the LV input is connected through 0.01 uF to (See Datasheet)", 5 LATCH (in) "DAC Latch Input. Logic Input. A rising edge of the LATCH signal loads the data from the serial input shift register to the DAC latch and hence updates the output of the DAC. The number of clock cycles provided between latch (See Datasheet)", 6 CLOCK (in) "Data Clock Input. Data on the DATA input is clocked into the shift register on the rising edge of this CLOCK input. The period of this clock equals the input serial data bit rate. This serial clock rate can be up to 10 MHz. (See Datasheet)", 7 DATA (in) "Data Input. The data to be loaded to the AD421 input shift register is applied to this input. Data should be valid on the rising edge of the CLOCK input.", 8 LOOP RTN (out) "Loop Return Output. LOOP RTN is the return path for current flowing in the current loop.", 9 COM (power) "Common. This is the reference potential for the AD421 analog and digital inputs and outputs and for the voltage regulator output.", 10 C3 "Filtering Capacitor. A low dielectric absorption capacitor ceramic capacitor should be connected between this pin and COM for internal filtering of the switched current sources", 11 C2 "Filtering Capacitor. See C3 description.", 12 C1 "Filtering Capacitor. See C3 description.", 13 DRIVE (out) "Output from the Voltage Regulator Loop. The DRIVE signal controls the external pass transistor to establish and maintain the correct VCC level programmed by the LV inputs while providing the necessary bias as the loop (See Datasheet)", 14 COMP (in) "Compensation Capacitor Input. A capacitor connected between COMP and DRIVE is required to stabilize the feedback loop formed with the regulator op amp and the external pass transistor.", 15 BOOST (in) "This open collector pin sinks the necessary current from the loop so that the current flowing into BOOST plus the current flowing into COM is equal to the programmed loop current", 16 VCC (power) "Power Supply. VCC is the power supply input of the AD421 and it also provides the voltage regulator output, driven by the external pass transistor. It is used both to bias the AD421 itself and to provide power for the rest (See Datasheet)"

## AD421BRRL7
designator U?
Single 16-Bit Loop-Powered Digital-to-Analog Converter, 4 to 20 mA, -40 to +85 degC, RW-16, Reel; Generic Part Number: AD421; Manufacturer: Analog Devices; PartNumber: AD421BRRL7; # DAC Outputs: 1; Max V+: 5.05V; Op Pwr Diss: 1.95mW; Resolution (Bits): 16; Settling Time: 8ms; Single Supply: Yes; DatasheetVersion: Rev.C; PackageVersion: 032707-B; PackageReference: RW-16; PackageDescription: 16-Lead Standard Small Outline Package [SOIC_W]; Supplier 1: Digi-Key; Supplier Part Number 1: AD421BRRL7-ND; Supplier 2: Mouser; Supplier Part Number 2: 584-AD421BRR7; Packing: Reel; RoHS: N; Mounting Technology: Surface Mount; Code_JEDEC: MS-013-AA; Code_IPC: SOIC127P1030-16; ComponentLink1Description: Manufacturer URL; ComponentLink1URL: http://www.analog.com/en/index.html; ComponentLink2Description: Datasheet; ComponentLink2URL: http://www.analog.com/static/imported-files/data_sheets/AD421.pdf; ComponentLink3Description: Package Specification; ComponentLink3URL: http://www.analog.com/static/imported-files/packages/PKG_PDF/SOIC_WIDE%20%28RW%29/RW_16.pdf; ComponentLink4Description: Product URL; ComponentLink4URL: http://www.analog.com/en/digital-to-analog-converters/da-converters/ad421/products/product.html
footprint RW-16_N (SOIC, 16-Leads, Body 10.3x7.5mm, Pitch 1.27mm, IPC Medium Density)
footprint RW-16_L (SOIC, 16-Leads, Body 10.3x7.5mm, Pitch 1.27mm, IPC High Density)
footprint RW-16_M (SOIC, 16-Leads, Body 10.3x7.5mm, Pitch 1.27mm, IPC Low Density)
pins: 1 REF OUT1 (out) "Reference Output 1. A precision +1.25 V reference is provided at this pin. It is intended as a precision reference source for other devices in the transmitter. REF OUT1 is a buffered output capable of providing up to 0.5 mA (See Datasheet)", 2 REF OUT2 (out) "Reference Output 2. A precision +2.5 V reference is provided at this pin. To operate the AD421 with its own reference, REF OUT2 should be connected to REF IN. It can also be used as a precision reference source for other (See Datasheet)", 3 REF IN (in) "Voltage Reference Input. The reference voltage for the AD421 is applied to this pin and it sets the span for the AD421. The nominal reference voltage for the AD421 is +2.5 V for correct operation. This can be supplied using (See Datasheet)", 4 LV (in) "Regulated Voltage Control Input. The LV input controls the loop gain of the servo amplifier to set VCC. With LV connected to COM, the regulator voltage is set to 5 V nominal. If the LV input is connected through 0.01 uF to (See Datasheet)", 5 LATCH (in) "DAC Latch Input. Logic Input. A rising edge of the LATCH signal loads the data from the serial input shift register to the DAC latch and hence updates the output of the DAC. The number of clock cycles provided between latch (See Datasheet)", 6 CLOCK (in) "Data Clock Input. Data on the DATA input is clocked into the shift register on the rising edge of this CLOCK input. The period of this clock equals the input serial data bit rate. This serial clock rate can be up to 10 MHz. (See Datasheet)", 7 DATA (in) "Data Input. The data to be loaded to the AD421 input shift register is applied to this input. Data should be valid on the rising edge of the CLOCK input.", 8 LOOP RTN (out) "Loop Return Output. LOOP RTN is the return path for current flowing in the current loop.", 9 COM (power) "Common. This is the reference potential for the AD421 analog and digital inputs and outputs and for the voltage regulator output.", 10 C3 "Filtering Capacitor. A low dielectric absorption capacitor ceramic capacitor should be connected between this pin and COM for internal filtering of the switched current sources", 11 C2 "Filtering Capacitor. See C3 description.", 12 C1 "Filtering Capacitor. See C3 description.", 13 DRIVE (out) "Output from the Voltage Regulator Loop. The DRIVE signal controls the external pass transistor to establish and maintain the correct VCC level programmed by the LV inputs while providing the necessary bias as the loop (See Datasheet)", 14 COMP (in) "Compensation Capacitor Input. A capacitor connected between COMP and DRIVE is required to stabilize the feedback loop formed with the regulator op amp and the external pass transistor.", 15 BOOST (in) "This open collector pin sinks the necessary current from the loop so that the current flowing into BOOST plus the current flowing into COM is equal to the programmed loop current", 16 VCC (power) "Power Supply. VCC is the power supply input of the AD421 and it also provides the voltage regulator output, driven by the external pass transistor. It is used both to bias the AD421 itself and to provide power for the rest (See Datasheet)"

## AD421BRZ
designator U?
Single 16-Bit Loop-Powered Digital-to-Analog Converter, 4 to 20 mA, -40 to +85 degC, RW-16, Pb-Free, Tube; Generic Part Number: AD421; Manufacturer: Analog Devices; PartNumber: AD421BRZ; # DAC Outputs: 1; Max V+: 5.05V; Op Pwr Diss: 1.95mW; Resolution (Bits): 16; Settling Time: 8ms; Single Supply: Yes; DatasheetVersion: Rev.C; PackageVersion: 032707-B; PackageReference: RW-16; PackageDescription: 16-Lead Standard Small Outline Package [SOIC_W]; Supplier 1: Digi-Key; Supplier Part Number 1: AD421BRZ-ND; Supplier 2: Farnell; Supplier Part Number 2: 1651256; Supplier 3: Farnell; Supplier Part Number 3: 1278822; Supplier 4: Newark; Supplier Part Number 4: 59K3527; Supplier 5: Mouser; Supplier Part Number 5: 584-AD421BRZ; Packing: Tube; RoHS: Y; Mounting Technology: Surface Mount; Code_JEDEC: MS-013-AA; Code_IPC: SOIC127P1030-16; ComponentLink1Description: Manufacturer URL; ComponentLink1URL: http://www.analog.com/en/index.html; ComponentLink2Description: Datasheet; ComponentLink2URL: http://www.analog.com/static/imported-files/data_sheets/AD421.pdf; ComponentLink3Description: Package Specification; ComponentLink3URL: http://www.analog.com/static/imported-files/packages/PKG_PDF/SOIC_WIDE%20%28RW%29/RW_16.pdf; ComponentLink4Description: Product URL; ComponentLink4URL: http://www.analog.com/en/digital-to-analog-converters/da-converters/ad421/products/product.html
footprint RW-16_N (SOIC, 16-Leads, Body 10.3x7.5mm, Pitch 1.27mm, IPC Medium Density)
footprint RW-16_L (SOIC, 16-Leads, Body 10.3x7.5mm, Pitch 1.27mm, IPC High Density)
footprint RW-16_M (SOIC, 16-Leads, Body 10.3x7.5mm, Pitch 1.27mm, IPC Low Density)
pins: 1 REF OUT1 (out) "Reference Output 1. A precision +1.25 V reference is provided at this pin. It is intended as a precision reference source for other devices in the transmitter. REF OUT1 is a buffered output capable of providing up to 0.5 mA (See Datasheet)", 2 REF OUT2 (out) "Reference Output 2. A precision +2.5 V reference is provided at this pin. To operate the AD421 with its own reference, REF OUT2 should be connected to REF IN. It can also be used as a precision reference source for other (See Datasheet)", 3 REF IN (in) "Voltage Reference Input. The reference voltage for the AD421 is applied to this pin and it sets the span for the AD421. The nominal reference voltage for the AD421 is +2.5 V for correct operation. This can be supplied using (See Datasheet)", 4 LV (in) "Regulated Voltage Control Input. The LV input controls the loop gain of the servo amplifier to set VCC. With LV connected to COM, the regulator voltage is set to 5 V nominal. If the LV input is connected through 0.01 uF to (See Datasheet)", 5 LATCH (in) "DAC Latch Input. Logic Input. A rising edge of the LATCH signal loads the data from the serial input shift register to the DAC latch and hence updates the output of the DAC. The number of clock cycles provided between latch (See Datasheet)", 6 CLOCK (in) "Data Clock Input. Data on the DATA input is clocked into the shift register on the rising edge of this CLOCK input. The period of this clock equals the input serial data bit rate. This serial clock rate can be up to 10 MHz. (See Datasheet)", 7 DATA (in) "Data Input. The data to be loaded to the AD421 input shift register is applied to this input. Data should be valid on the rising edge of the CLOCK input.", 8 LOOP RTN (out) "Loop Return Output. LOOP RTN is the return path for current flowing in the current loop.", 9 COM (power) "Common. This is the reference potential for the AD421 analog and digital inputs and outputs and for the voltage regulator output.", 10 C3 "Filtering Capacitor. A low dielectric absorption capacitor ceramic capacitor should be connected between this pin and COM for internal filtering of the switched current sources", 11 C2 "Filtering Capacitor. See C3 description.", 12 C1 "Filtering Capacitor. See C3 description.", 13 DRIVE (out) "Output from the Voltage Regulator Loop. The DRIVE signal controls the external pass transistor to establish and maintain the correct VCC level programmed by the LV inputs while providing the necessary bias as the loop (See Datasheet)", 14 COMP (in) "Compensation Capacitor Input. A capacitor connected between COMP and DRIVE is required to stabilize the feedback loop formed with the regulator op amp and the external pass transistor.", 15 BOOST (in) "This open collector pin sinks the necessary current from the loop so that the current flowing into BOOST plus the current flowing into COM is equal to the programmed loop current", 16 VCC (power) "Power Supply. VCC is the power supply input of the AD421 and it also provides the voltage regulator output, driven by the external pass transistor. It is used both to bias the AD421 itself and to provide power for the rest (See Datasheet)"